# Altium footprint library Inductor.PcbLib: 10 footprints
Each footprint in its own frame and in the unit in brackets; x right, y up, seen from the top. Pads: shape width x height; smd on the part's side, far side on the other; paste and mask are expansions set on the pad; w line width, h text height; cw(c..) or ccw(c..) is an arc to the next point about the centre after c.
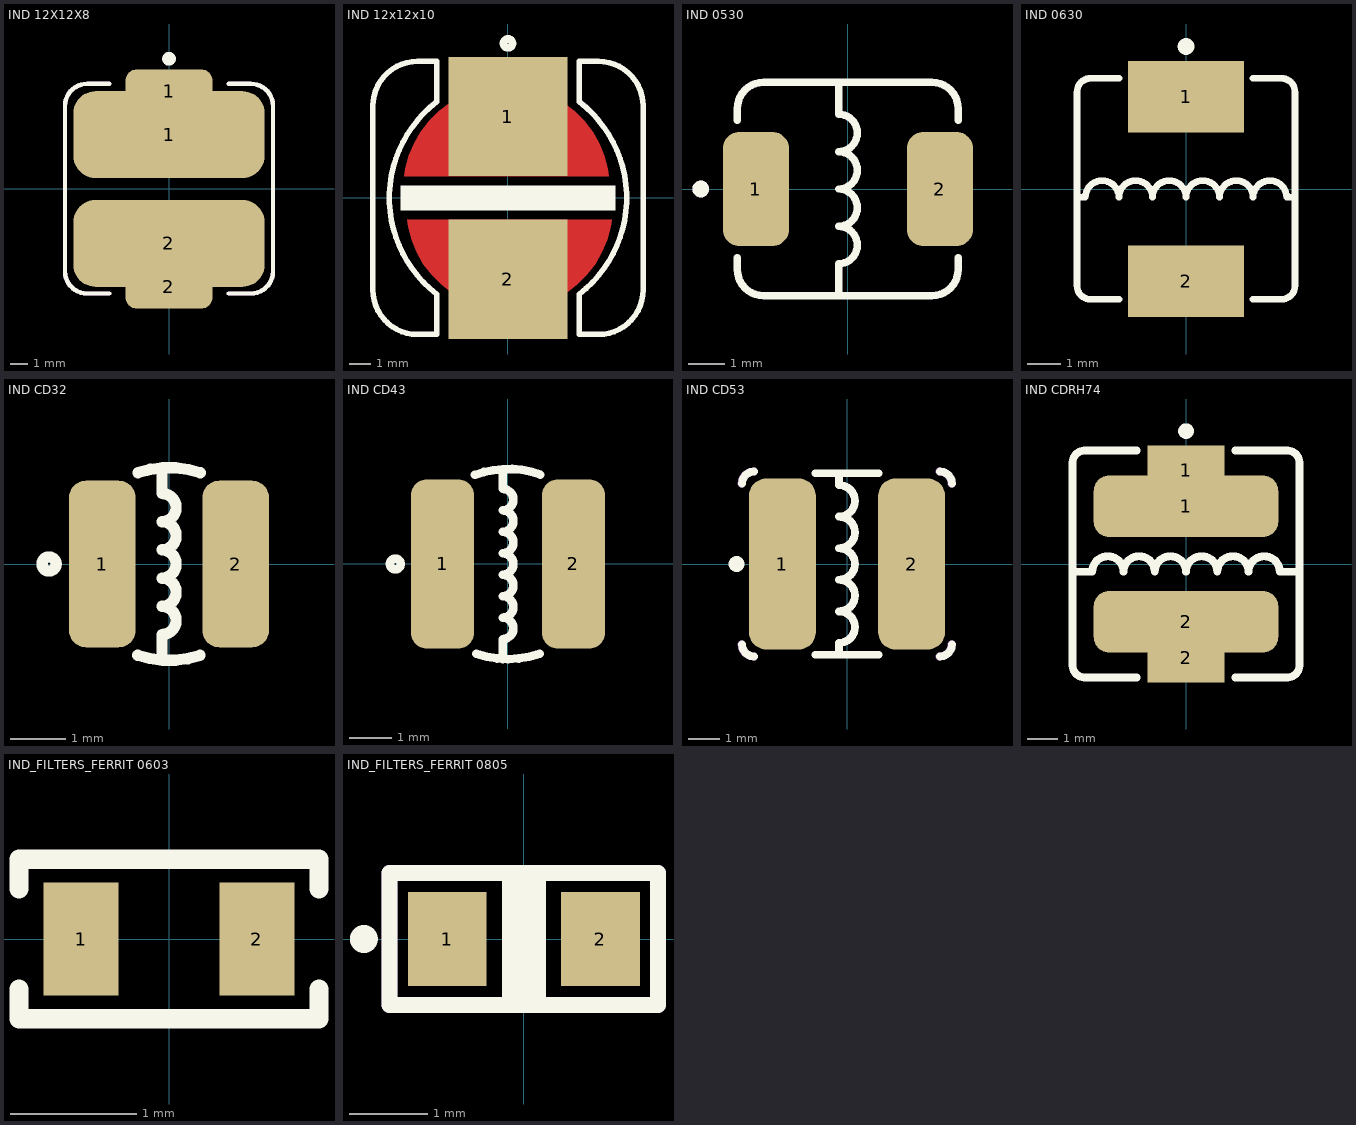
[diagram p0: the footprints below, top view; thin cyan lines are the x and y axes]

## IND 12X12X8 [mm] "IND 12X12X8, 33uH, 47uH, 68uH"
height 8
pads (4):
  rrect50% 11x5 smd: 1(0,3.132) 2(0,-3.132)
  rrect50% 5x2.5 smd: 1(0,5.632) 2(0,-5.632)
Top Overlay:
  circle w0.381: c0,7.493 r0.203
  lines w0.254: -3.445,-6.012 -4.715,-6.012 cw(c-4.715,-4.742) -5.985,-4.742 -5.985,4.783 cw(c-4.715,4.783) -4.715,6.053 -3.445,6.053 ; 3.445,-6.012 4.715,-6.012 ccw(c4.715,-4.742) 5.985,-4.742 5.985,4.783 ccw(c4.715,4.783) 4.715,6.053 3.445,6.053
Mechanical 13:
  lines w0.254: -3.445,-6.012 -4.715,-6.012 cw(c-4.715,-4.742) -5.985,-4.742 -5.985,4.783 cw(c-4.715,4.783) -4.715,6.053 -3.445,6.053 ; 3.445,-6.012 4.715,-6.012 ccw(c4.715,-4.742) 5.985,-4.742 5.985,4.783 ccw(c4.715,4.783) 4.715,6.053 3.445,6.053
  text "'.Designator'" at -2.561,-0.397 h1.52
3D body "SW3dPS-744770222.STEP": height 8.2, standoff 0.2, extent -6,-6 6,6

## IND 12x12x10 [mm] "IND 12X12X10;  33uH, 47uH, 68uH"
pads (2):
  rect 5.5x5.5 smd: 1(0,3.746) 2(0,-3.746)
Top Layer:
  region: -4.77,0.997 -4.725,1.334 -4.564,1.935 -4.326,2.51 -4.015,3.049 -3.636,3.542 -3.196,3.982 -2.703,4.361 -2.164,4.672 -1.589,4.91 -0.988,5.071 -0.372,5.152 0.25,5.152 0.867,5.071 1.468,4.91 2.043,4.672 2.581,4.361 3.075,3.982 3.515,3.542 3.894,3.049 4.205,2.51 4.443,1.935 4.604,1.334 4.648,0.997
  region: 4.77,-0.997 4.725,-1.334 4.564,-1.935 4.326,-2.51 4.015,-3.049 3.636,-3.542 3.196,-3.982 2.703,-4.361 2.164,-4.672 1.589,-4.91 0.988,-5.071 0.372,-5.152 -0.25,-5.152 -0.867,-5.071 -1.468,-4.91 -2.043,-4.672 -2.581,-4.361 -3.075,-3.982 -3.515,-3.542 -3.894,-3.049 -4.205,-2.51 -4.443,-1.935 -4.604,-1.334 -4.648,-0.997
Top Overlay:
  circle w0.356: c0,7.112 r0.203
  region: -4.953,0.572 -4.953,-0.571 4.953,-0.572 4.953,0.571
  lines w0.254: -3.277,4.432 -3.277,6.286 -4.167,6.286 ccw(c-4.167,4.23) -6.223,4.23 -6.223,-4.23 ccw(c-4.167,-4.23) -4.167,-6.286 -3.277,-6.286 -3.277,-4.432 cw(c0.127,0) -3.276,4.432 ; 3.276,-4.432 ccw(c-0.127,0) 3.276,4.432 3.277,6.286 4.167,6.286 cw(c4.167,4.23) 6.223,4.23 6.223,-4.23 cw(c4.167,-4.23) 4.167,-6.286 3.277,-6.286 3.277,-4.432
3D body "SW3dPS-DRQ127_12.5x12.5.STEP": height 8, standoff 0, extent -6.25,-6.25 6.25,6.25

## IND 0530 [mm] "IND SMD 0530"
pads (2):
  rrect50% 1.8x3.1 smd: 1(-2.5,0) 2(2.5,0)
Top Overlay:
  circle w0.254: c-4,0 r0.1
  lines w0.203: -3.004,-1.863 -3.004,-2.187 ccw(c-2.291,-2.187) -2.291,-2.9 2.282,-2.9 ccw(c2.282,-2.187) 2.995,-2.187 2.995,-1.863 ; -3.004,1.864 -3.004,2.187 cw(c-2.291,2.187) -2.291,2.9 2.282,2.9 cw(c2.282,2.187) 2.995,2.187 2.995,1.864 ; -0.254,-2.9 -0.254,-2.032 ccw(c-0.254,-1.524) 0.254,-1.524 ccw(c-0.254,-1.524) -0.254,-1.016 ccw(c-0.254,-0.508) 0.254,-0.508 ccw(c-0.254,-0.508) -0.254,0 ccw(c-0.254,0.508) 0.254,0.508 ccw(c-0.254,0.508) -0.254,1.016 ccw(c-0.254,1.524) 0.254,1.524 ccw(c-0.254,1.524) -0.254,2.032 -0.254,2.9
Mechanical 13:
  circle w0.254: c-4,0 r0.1
3D body "FDV0530-H-1R5M=P3--3DModel-STEP-46669.STEP": height 3, standoff 0, extent -3.1,-2.9 3.1,2.9

## IND 0630 [mil] "IND 0630; 10uH, 15uH"
pads (2):
  rect 137.8x85 smd: 1(0,110) 2(0,-110)
Top Overlay:
  circle w10: c0,170 r5
  lines w8: -130,-10 -120,-10 cw(c-100,-10) -100,10 cw(c-100,-10) -80,-10 cw(c-60,-10) -60,10 cw(c-60,-10) -40,-10 cw(c-20,-10) -20,10 cw(c-20,-10) 0,-10 cw(c20,-10) 20,10 cw(c20,-10) 40,-10 cw(c60,-10) 60,10 cw(c60,-10) 80,-10 cw(c100,-10) 100,10 cw(c100,-10) 120,-10 130,-10 ; -80,-131.53 -113.85,-131.53 cw(c-113.85,-115.38) -130,-115.38 -130,115.76 cw(c-113.85,115.76) -113.85,131.92 -80,131.92 ; 80,-131.53 113.85,-131.53 ccw(c113.85,-115.38) 130,-115.38 130,115.76 ccw(c113.85,115.76) 113.85,131.92 80,131.92
3D body "7764039.stp": height 156.11, standoff -0.89, extent -128,-141.5 128,141.5

## IND CD32 [mm]
pads (2):
  rrect50% 1.2x3 smd paste+0: 1(-1.2,0) 2(1.2,0)
Top Overlay:
  circle w0.203: c-2.159,0 r0.127
  lines w0.203: -0.565,-1.642 ccw(c0,0) 0.558,-1.645 ; -0.558,1.645 cw(c0,0) 0.565,1.642 ; -0.127,-1.644 -0.127,-1.27 ccw(c-0.127,-1.016) -0.127,-0.762 ccw(c-0.127,-0.508) -0.127,-0.254 ccw(c-0.127,0) -0.127,0.254 ccw(c-0.127,0.508) -0.127,0.762 ccw(c-0.127,1.016) -0.127,1.27 -0.127,1.644
3D body "Inductor_CD32.STEP": height 2.45, standoff -0.02, extent -1.704,-1.644 1.704,1.644

## IND CD43 [mm]
pads (2):
  rrect50% 1.5x4 smd paste+0: 1(-1.55,0) 2(1.55,0)
Top Overlay:
  circle w0.203: c-2.667,0 r0.127
  lines w0.203: -0.785,2.109 cw(c0,0) 0.766,2.116 ; -0.749,-2.122 ccw(c0,0) 0.749,-2.122 ; -0.127,-2.25 -0.127,-1.778 ccw(c-0.127,-1.524) -0.127,-1.27 ccw(c-0.127,-1.016) -0.127,-0.762 ccw(c-0.127,-0.508) -0.127,-0.254 ccw(c-0.127,0) -0.127,0.254 ccw(c-0.127,0.508) -0.127,0.762 ccw(c-0.127,1.016) -0.127,1.27 ccw(c-0.127,1.524) -0.127,1.778 -0.127,2.198
3D body "CD43_inductor.STEP": height 3.2, standoff 0, extent -2.195,-2.25 2.194,2.25

## IND CD53 [mm] "IND CD53/CD54"
pads (2):
  rrect50% 2.15x5.5 smd paste+0: 1(-2.079,0) 2(2.079,0)
Top Overlay:
  circle w0.254: c-3.556,0 r0.127
  lines w0.254: -3.378,-2.591 ccw(c-2.993,-2.591) -2.993,-2.976 ; -3.378,2.591 cw(c-2.993,2.591) -2.993,2.976 ; -1.016,-2.921 1.016,-2.921 ; -1.016,2.921 1.016,2.921 ; -0.254,-2.921 -0.254,-2.54 ccw(c-0.254,-2.032) 0.254,-2.032 ccw(c-0.254,-2.032) -0.254,-1.524 ccw(c-0.254,-1.016) 0.254,-1.016 ccw(c-0.254,-1.016) -0.254,-0.508 ccw(c-0.254,0) 0.254,0 ccw(c-0.254,0) -0.254,0.508 ccw(c-0.254,1.016) 0.254,1.016 ccw(c-0.254,1.016) -0.254,1.524 ccw(c-0.254,2.032) 0.254,2.032 ccw(c-0.254,2.032) -0.254,2.54 -0.254,2.921 ; 2.993,-2.976 ccw(c2.993,-2.591) 3.378,-2.591 ; 2.993,2.976 cw(c2.993,2.591) 3.378,2.591
Mechanical 13:
  lines w0.254: -3.391,-2.591 ccw(c-3.006,-2.591) -3.006,-2.976 ; -3.391,2.591 cw(c-3.006,2.591) -3.006,2.976 ; 2.98,-2.976 ccw(c2.98,-2.591) 3.365,-2.591 ; 2.98,2.976 cw(c2.98,2.591) 3.365,2.591
  text "'.Designator'" at -2.794,-0.4 h1.52
3D body "User Library-CD54.STEP": height 4.51, standoff 0.01, extent -2.958,-2.6 2.958,2.6

## IND CDRH74 [mm]
pads (4):
  rrect50% 6x2 smd: 1(0,1.873) 2(0,-1.873)
  rect 2.5x1.6 smd: 1(0,3.048) 2(0,-3.048)
Top Overlay:
  circle w0.254: c0,4.318 r0.127
  lines w0.254: -3.683,-0.254 -3.048,-0.254 cw(c-2.54,-0.254) -2.54,0.254 cw(c-2.54,-0.254) -2.032,-0.254 cw(c-1.524,-0.254) -1.524,0.254 cw(c-1.524,-0.254) -1.016,-0.254 cw(c-0.508,-0.254) -0.508,0.254 cw(c-0.508,-0.254) 0,-0.254 cw(c0.508,-0.254) 0.508,0.254 cw(c0.508,-0.254) 1.016,-0.254 cw(c1.524,-0.254) 1.524,0.254 cw(c1.524,-0.254) 2.032,-0.254 cw(c2.54,-0.254) 2.54,0.254 cw(c2.54,-0.254) 3.048,-0.254 3.683,-0.254 ; -1.602,-3.683 -3.302,-3.683 cw(c-3.302,-3.302) -3.683,-3.302 -3.683,3.302 cw(c-3.302,3.302) -3.302,3.683 -1.602,3.683 ; 1.602,-3.683 3.302,-3.683 ccw(c3.302,-3.302) 3.683,-3.302 3.683,3.302 ccw(c3.302,3.302) 3.302,3.683 1.602,3.683
3D body "CDRN74.stp": height 4.52, standoff 0.02, extent -3.65,-3.65 3.65,3.65

## IND_FILTERS_FERRIT 0603 [mm] "IND_FILTERS_FERRIT 0603"
pads (2):
  rect 0.6x0.9 smd mask+0.076: 1(-0.7,0) 2(0.7,0)
Top Overlay:
  lines w0.152: -1.194,-0.399 -1.194,-0.635 1.194,-0.635 1.194,-0.399 ; -1.194,0.399 -1.194,0.635 1.194,0.635 1.194,0.399
3D body "step_temp.STEP": height 0.95, standoff 0, extent -0.8,-0.4 0.8,0.4

## IND_FILTERS_FERRIT 0805 [mm] "IND_FILTERS_FERRIT 0805"
pads (2):
  rect 1x1.2 smd: 1(-0.974,0) 2(0.974,0)
Top Overlay:
  circle w0.203: c-2.032,0 r0.075
  lines w0.203: -1.698,0.841 -1.705,0.841 ; -0.178,-0.841 -0.178,0.841 ; -0.004,-0.841 -0.004,0.841 ; 0.178,-0.841 0.178,0.841 ; 1.698,0.841 -1.705,0.841 ; 1.705,0.841 1.705,-0.841 1.698,-0.841 ; -1.705,-0.841 1.698,-0.841 ; -1.705,-0.841 1.698,-0.841 ; -1.705,-0.841 -1.705,0.841
Mechanical 2:
  lines w0.203: -1.705,-0.841 -1.705,0.841 ; -1.698,-0.841 -0.381,-0.841 ; -1.698,0.841 -0.381,0.841 ; 0.381,-0.841 1.698,-0.841 ; 0.381,0.841 1.698,0.841 ; 1.705,-0.841 1.705,0.841
3D body "ASMCI-0805-1R0M-T.STEP": height 1.26, standoff 0.01, extent -1,-0.625 1,0.625